# Altium footprint library ERJ-PB6B1003V.PcbLib: 1 footprints
Each footprint in its own frame and in the unit in brackets; x right, y up, seen from the top. Pads: shape width x height; smd on the part's side, far side on the other; paste and mask are expansions set on the pad; w line width, h text height; cw(c..) or ccw(c..) is an arc to the next point about the centre after c.
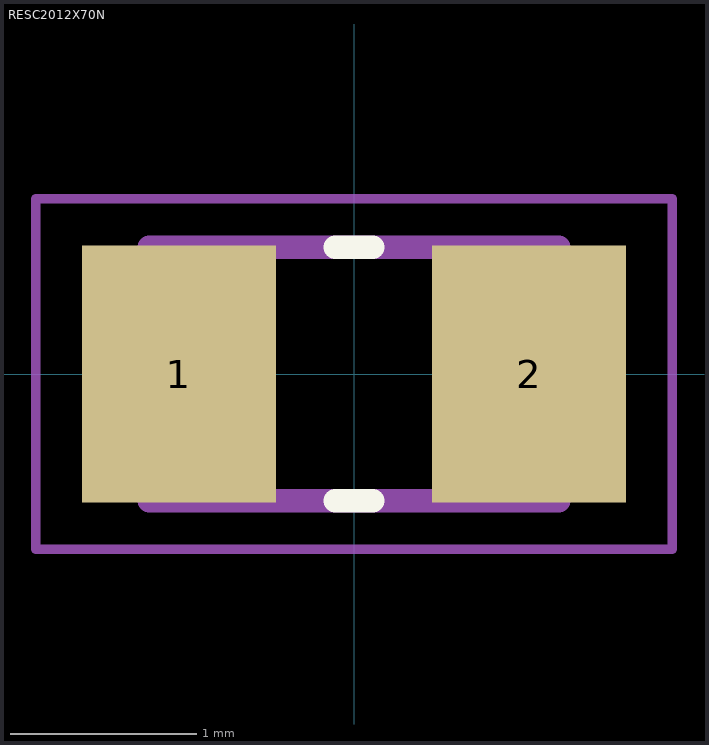
[diagram p0: the footprint, top view; thin cyan lines are the x and y axes]

## RESC2012X70N [mm]
pads (2):
  rect 1.04x1.38 smd: 1(-0.94,0) 2(0.94,0)
Top Overlay:
  lines w0.127: -0.1,-0.68 0.1,-0.68 ; -0.1,0.68 0.1,0.68
Mechanical 13:
  lines w0.127: -1.1,-0.68 -1.1,0.68 1.1,0.68 1.1,-0.68 -1.1,-0.68
Mechanical 15:
  lines w0.05: -1.708,-0.94 -1.708,0.94 1.708,0.94 1.708,-0.94 -1.708,-0.94
3D body "step_temp.STEP": height 0.7, standoff 0, extent -1,-0.625 1,0.625